# EAGLE library part CY8C4246AZI-M442 (library PSoC4-M)
MCU, PSOC4, Cortex-M0, 48-MHz, 8K RAM, 64K FLASH, 4 UDB, 2 OPAMP, 4 CSD, 1 MSPS SAR, 2 COMP, 8 PWM, 4 SCB, TQFP-48
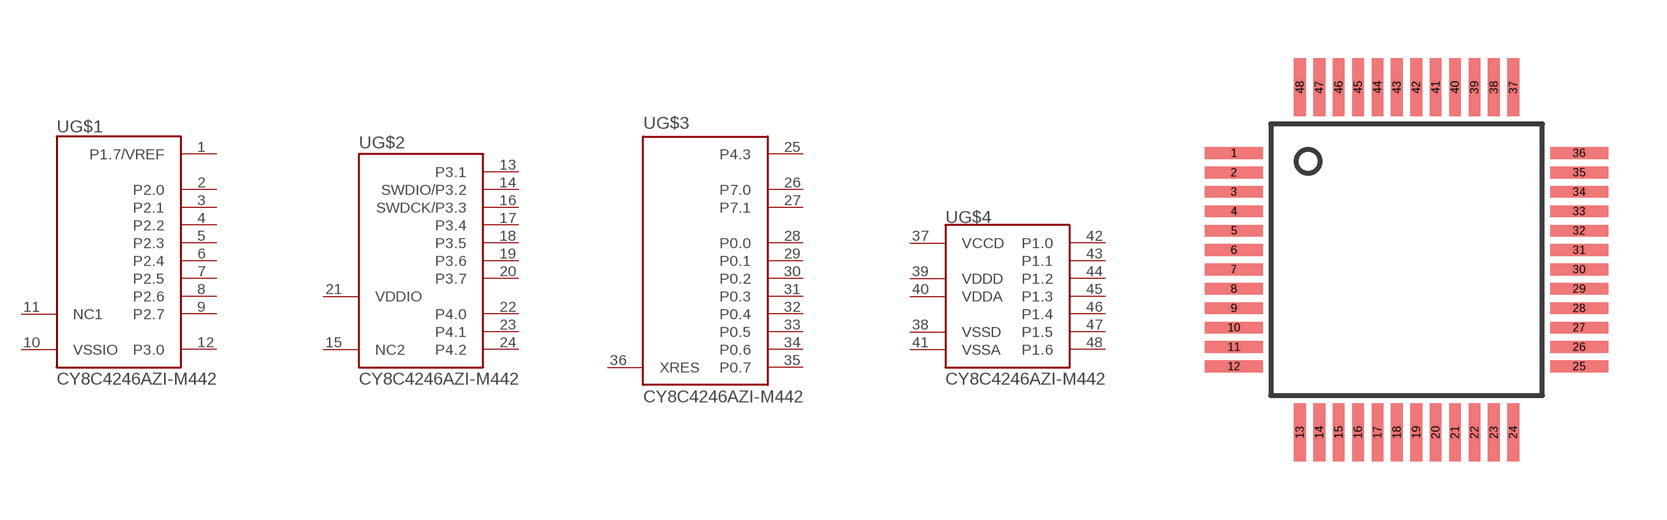
[diagram p2: symbol with the pads of QFP-48_7MM_0.5MM; footprint QFP-48_7MM_0.5MM]

Designator prefix U; gates G$1=PSOC4M_48-PIN_PART-A G$2=PSCO4M_48-PIN_PART-B G$3=PSOC4M_48-PIN_PART-C G$4=PSOC4M_48-PIN_PART-D

## CY8C4246AZI-M442  [QFP-48_7MM_0.5MM]
1  G$1:P1.7/VREF
2  G$1:P2.0
3  G$1:P2.1
4  G$1:P2.2
5  G$1:P2.3
6  G$1:P2.4
7  G$1:P2.5
8  G$1:P2.6
9  G$1:P2.7
10  G$1:VSSIO  pwr
11  G$1:NC1  nc
12  G$1:P3.0
13  G$2:P3.1
14  G$2:SWDIO/P3.2
15  G$2:NC2  nc
16  G$2:SWDCK/P3.3
17  G$2:P3.4
18  G$2:P3.5
19  G$2:P3.6
20  G$2:P3.7
21  G$2:VDDIO  pwr
22  G$2:P4.0
23  G$2:P4.1
24  G$2:P4.2
25  G$3:P4.3
26  G$3:P7.0
27  G$3:P7.1
28  G$3:P0.0
29  G$3:P0.1
30  G$3:P0.2
31  G$3:P0.3
32  G$3:P0.4
33  G$3:P0.5
34  G$3:P0.6
35  G$3:P0.7
36  G$3:XRES  in
37  G$4:VCCD  pwr
38  G$4:VSSD  pwr
39  G$4:VDDD  pwr
40  G$4:VDDA  pwr
41  G$4:VSSA  pwr
42  G$4:P1.0
43  G$4:P1.1
44  G$4:P1.2
45  G$4:P1.3
46  G$4:P1.4
47  G$4:P1.5
48  G$4:P1.6

## Footprint QFP-48_7MM_0.5MM (pad centres in mm)
smd 1.5 x 0.3: 1 -4.45,2.75; 2 -4.45,2.25; 3 -4.45,1.75; 4 -4.45,1.25; 5 -4.45,0.75; 6 -4.45,0.25; 7 -4.45,-0.25; 8 -4.45,-0.75; 9 -4.45,-1.25; 10 -4.45,-1.75; 11 -4.45,-2.25; 12 -4.45,-2.75; 25 4.45,-2.75; 26 4.45,-2.25; 27 4.45,-1.75; 28 4.45,-1.25; 29 4.45,-0.75; 30 4.45,-0.25; 31 4.45,0.25; 32 4.45,0.75; 33 4.45,1.25; 34 4.45,1.75; 35 4.45,2.25; 36 4.45,2.75
smd 0.3 x 1.5: 13 -2.75,-4.45; 14 -2.25,-4.45; 15 -1.75,-4.45; 16 -1.25,-4.45; 17 -0.75,-4.45; 18 -0.25,-4.45; 19 0.25,-4.45; 20 0.75,-4.45; 21 1.25,-4.45; 22 1.75,-4.45; 23 2.25,-4.45; 24 2.75,-4.45; 37 2.75,4.45; 38 2.25,4.45; 39 1.75,4.45; 40 1.25,4.45; 41 0.75,4.45; 42 0.25,4.45; 43 -0.25,4.45; 44 -0.75,4.45; 45 -1.25,4.45; 46 -1.75,4.45; 47 -2.25,4.45; 48 -2.75,4.45